# EAGLE library part SW-2UM (library we-switch)
Switch
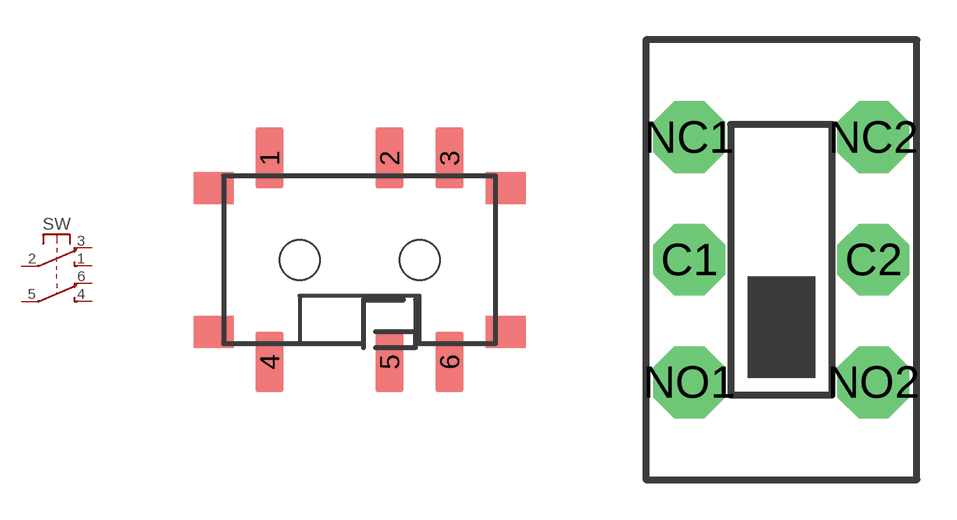
[diagram p0: symbol with the pads of CUS22B; footprints CUS22B, GF1260159]

Designator prefix SW

## SW-2UM-CUS22B (DIGIKEY: 563-1105-6-ND)  [CUS22B]
1  S1  pas
2  P1  pas
3  O1  pas
4  S2  pas
5  P2  pas
6  O2  pas

## SW-2UM-GF1260159  [GF1260159]
C1  P1  pas
C2  P2  pas
NC1  O1  pas
NC2  O2  pas
NO1  S1  pas
NO2  S2  pas

## Footprint CUS22B (pad centres in mm)
Copal Electronics CUS-22B
smd 0.7 x 1.5: 1 -2.25,2.55; 2 0.75,2.55; 3 2.25,2.55; 4 -2.25,-2.55; 5 0.75,-2.55; 6 2.25,-2.55
hole 1 at -1.5,0
hole 1 at 1.5,0

## Footprint GF1260159 (pad centres in mm)
drill 1.8 octagon: C1 -3.455,0; C2 3.455,0; NC1 -3.455,4.6; NC2 3.455,4.6; NO1 -3.455,-4.6; NO2 3.455,-4.6